# EAGLE library part USB_TYPE_A (library USB_A)
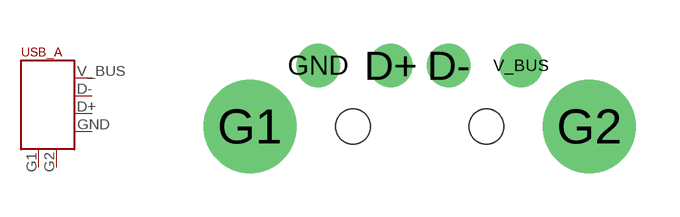
[diagram p0: symbol with the pads of USB_A_THT; footprint USB_A_THT]

Designator prefix -

## USB_TYPE_A  [USB_A_THT]
D+  D+
D-  D-
G1  G1
G2  G2
GND  GND
V_BUS  V_BUS

## Footprint USB_A_THT (pad centres in mm)
drill 1: D+ -1,0; D- 1,0; GND -3.5,0; V_BUS 3.5,0
drill 2.2: G1 -5.85,-2.1; G2 5.85,-2.1
hole 1.2 at -2.3,-2.1
hole 1.2 at 2.3,-2.1